# EAGLE library part 93AA56AT-I/OT (library Microchip_By_element14_Batch_1)
2K Microwire Compatible Serial EEPROM
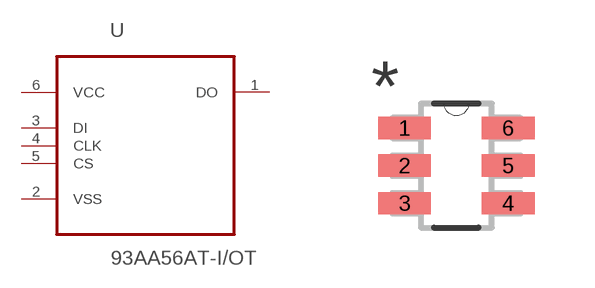
[diagram p189: symbol with the pads of SOT95P270X145-6N; footprint SOT95P270X145-6N]

Designator prefix -

## 93AA56AT-I/OT (MPN: 93AA56AT-I/OT; OC_FARNELL: 1331419; OC_NEWARK: 30H4490; PACKAGE: SOT-6; SUPPLIER: Microchip)  [SOT95P270X145-6N]
1  DO  out
2  VSS  pwr
3  DI  in
4  CLK  in
5  CS  in
6  VCC  pwr

## Footprint SOT95P270X145-6N (pad centres in mm)
smd 1.321 x 0.559: 1 -1.295,0.94; 2 -1.295,0; 3 -1.295,-0.94; 4 1.295,-0.94; 5 1.295,0; 6 1.295,0.94